# EAGLE library part 74HC74D,652 (library NXP_By_element14_Batch_1)
Dual D-type flip-flop
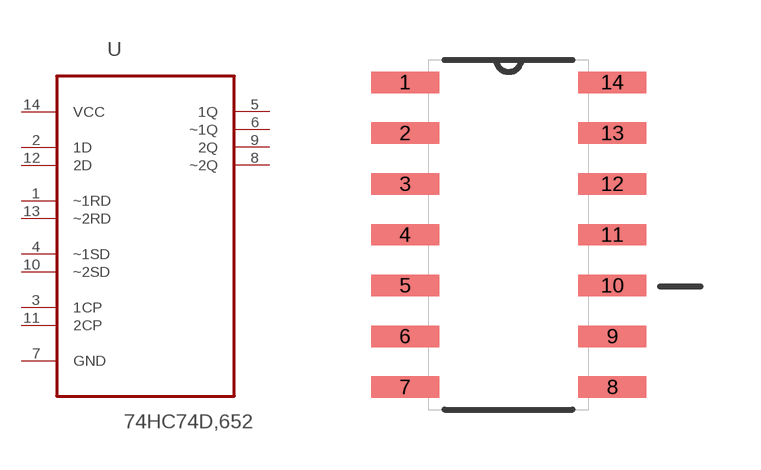
[diagram p152: symbol with the pads of SOIC127P600X175-14N; footprint SOIC127P600X175-14N]

Designator prefix U

## 74HC74D,652 (MPN: 74HC74D,652; OC_FARNELL: -; OC_NEWARK: 71R2748; P1I: o; PACKAGE: SOIC-14; SUPPLIER: NXP)  [SOIC127P600X175-14N]
1  ~1RD  in
2  1D  in
3  1CP  in
4  ~1SD  in
5  1Q  out
6  ~1Q  out
7  GND  pas
8  ~2Q  out
9  2Q  out
10  ~2SD  in
11  2CP  in
12  2D  in
13  ~2RD  in
14  VCC  pwr

## Footprint SOIC127P600X175-14N (pad centres in mm)
smd 1.702 x 0.533: 1 -2.591,3.81; 2 -2.591,2.54; 3 -2.591,1.27; 4 -2.591,0; 5 -2.591,-1.27; 6 -2.591,-2.54; 7 -2.591,-3.81; 8 2.591,-3.81; 9 2.591,-2.54; 10 2.591,-1.27; 11 2.591,0; 12 2.591,1.27; 13 2.591,2.54; 14 2.591,3.81